# EAGLE library part EXBA_10P (library EXBA)
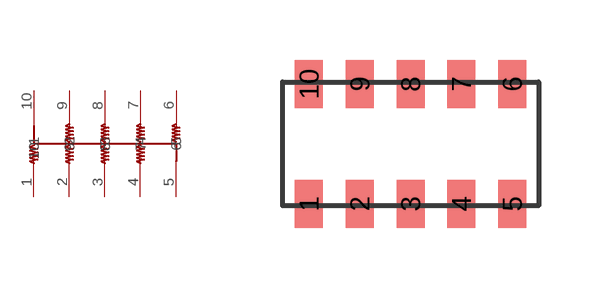
[diagram p0: symbol with the pads of EXBA; footprint EXBA]

Designator prefix -

## EXBA_10P  [EXBA]
1  1
2  2
3  3
4  4
5  5
6  6
7  7
8  8
9  9
10  10

## Footprint EXBA (pad centres in mm)
smd 0.7 x 1.2: 1 -2.54,-1.5; 2 -1.27,-1.5; 3 0,-1.5; 4 1.27,-1.5; 5 2.54,-1.5; 6 2.54,1.5; 7 1.27,1.5; 8 0,1.5; 9 -1.27,1.5; 10 -2.54,1.5